# Altium integrated library 140.IntLib: 5 symbols
Pins are listed as number, name and electrical type; pins without a type are passive.

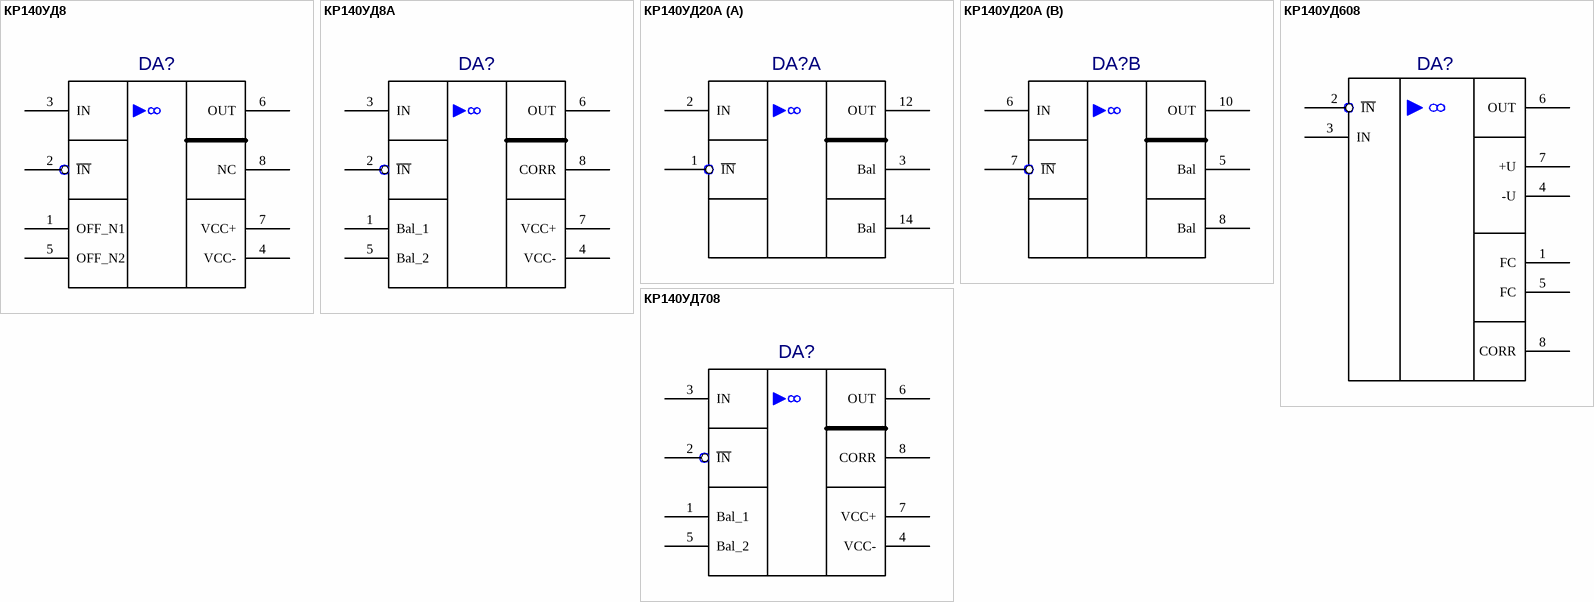
[diagram p0: symbols КР140УД8 to КР140УД708]

## КР140УД8
designator DA?  (value not drawn)
Value: *
footprint DIP8(SOT97-1)
pins: 1 OFF_N1, 2 ~{IN}, 3 IN, 4 VCC-, 5 OFF_N2, 6 OUT, 7 VCC+, 8 NC

## КР140УД8А
designator DA?  (value not drawn)
Value: *
footprint 2101.8-1
pins: 1 Bal_1, 2 ~{IN}, 3 IN, 4 VCC-, 5 Bal_2, 6 OUT, 7 VCC+, 8 CORR

## КР140УД20А
designator DA?  (value not drawn)
Value: *
footprint DIP-14_MM
pins on every part: 4 GND (power) hidden, 9 VCC (power) hidden, 11 hidden, 13 VCC (power) hidden
part A pins: 1 ~{IN}, 2 IN, 3 Bal, 12 OUT, 14 Bal
part B pins: 5 Bal, 6 IN, 7 ~{IN}, 8 Bal, 10 OUT

## КР140УД608
designator DA?  (value not drawn)
Author: pcbdesigner.ru; Value: *
footprint DIP8(SOT97-1)
pins: 1 FC, 2 ~{IN}, 3 IN, 4 -U, 5 FC, 6 OUT, 7 +U, 8 CORR

## КР140УД708
designator DA?  (value not drawn)
Value: *
footprint 2101.8-1
pins: 1 Bal_1, 2 ~{IN}, 3 IN, 4 VCC-, 5 Bal_2, 6 OUT, 7 VCC+, 8 CORR